# Altium footprint library DPDT_Pushbutton.PcbLib: 1 footprints
Each footprint in its own frame and in the unit in brackets; x right, y up, seen from the top. Pads: shape width x height; smd on the part's side, far side on the other; paste and mask are expansions set on the pad; w line width, h text height; cw(c..) or ccw(c..) is an arc to the next point about the centre after c.
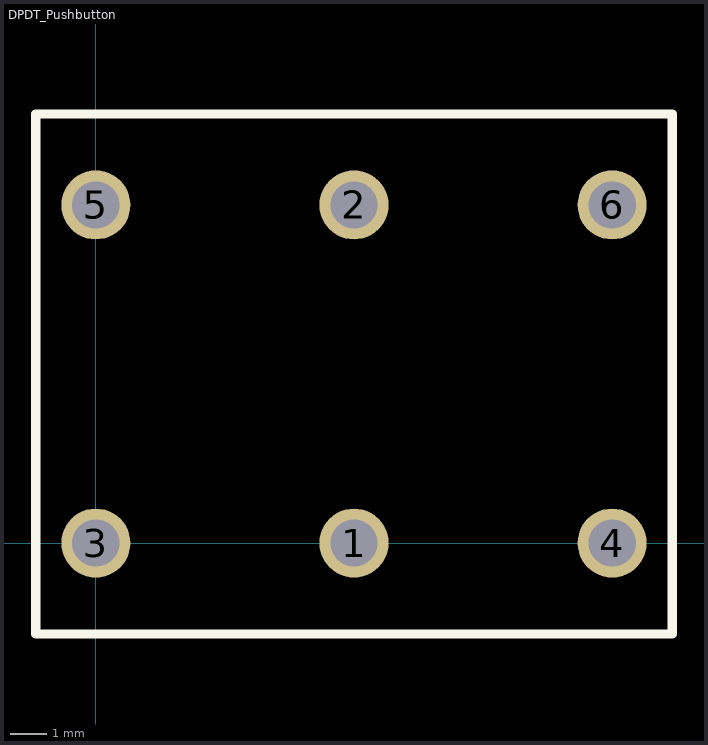
[diagram p0: the footprint, top view; thin cyan lines are the x and y axes]

## DPDT_Pushbutton [mm]
pads (6):
  round 1.9 hole 1.3: 1(7.1,0) 2(7.1,9.3) 3(0,0) 4(14.2,0) 5(0,9.3) 6(14.2,9.3)
Top Overlay:
  lines w0.254: -1.65,-2.5 15.85,-2.5 15.85,11.8 -1.65,11.8 -1.65,-2.5